# Altium footprint library BQ29200DRBT.PcbLib: 2 footprints
Each footprint in its own frame and in the unit in brackets; x right, y up, seen from the top. Pads: shape width x height; smd on the part's side, far side on the other; paste and mask are expansions set on the pad; w line width, h text height; cw(c..) or ccw(c..) is an arc to the next point about the centre after c.
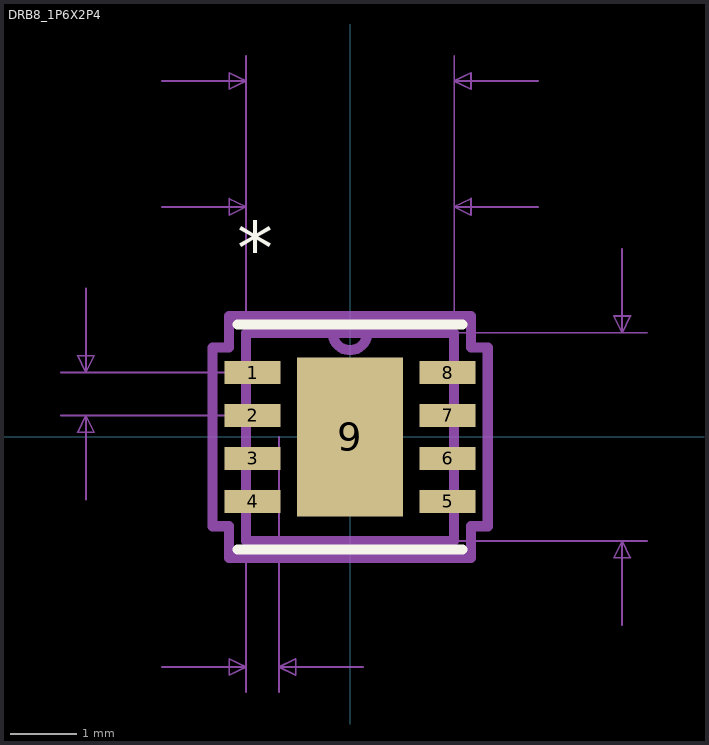
[diagram p0: the footprints below, top view; thin cyan lines are the x and y axes]

## DRB8_1P6X2P4 [mm]
pads (9):
  rect 0.85x0.35 smd: 1(-1.475,0.975) 2(-1.475,0.325) 3(-1.475,-0.325) 4(-1.475,-0.975) 5(1.475,-0.975) 6(1.475,-0.325) 7(1.475,0.325) 8(1.475,0.975)
  rect 1.6x2.4 smd: 9(0,0)
Top Overlay:
  lines w0.152: -1.702,-1.702 1.702,-1.702 ; -1.702,1.702 1.702,1.702
  text "*" at -1.709,2.468 h0.79
Mechanical 1:
  lines w0.025: -0.305,1.575 ccw(c0,1.575) 0.305,1.575 ; -1.575,-1.575 1.575,-1.575 1.575,1.575 -1.575,1.575 -1.575,-1.575 ; -1.575,-1.16 -1.575,-0.79 -1.575,-1.16 ; -1.575,-0.51 -1.575,-0.14 -1.575,-0.51 ; -1.575,0.14 -1.575,0.51 -1.575,0.14 ; -1.575,0.79 -1.575,1.16 -1.575,0.79 ; 1.575,-1.16 1.575,-0.79 1.575,-1.16 ; 1.575,-0.51 1.575,-0.14 1.575,-0.51 ; 1.575,0.14 1.575,0.51 1.575,0.14 ; 1.575,0.79 1.575,1.16 1.575,0.79
  text "*" at -1.321,1.325 h0.79
Mechanical 16:
  lines w0.025: -4.376,0.325 -1.455,0.325 ; -4.376,0.975 -1.455,0.975 ; -3.995,-0.945 -3.995,0.325 ; -3.995,2.245 -3.995,0.975 ; -2.845,-3.48 -1.575,-3.48 ; -2.845,3.48 -1.575,3.48 ; -2.845,5.385 -1.575,5.385 ; -1.575,-3.861 -1.575,0 ; -1.575,3.861 -1.575,0 ; -1.575,5.766 -1.575,0 ; -1.075,-3.861 -1.075,0 ; 0,-1.575 4.496,-1.575 ; 0,1.575 4.496,1.575 ; 0.195,-3.48 -1.075,-3.48 ; 1.575,3.861 1.575,0 1.575,5.766 ; 2.845,3.48 1.575,3.48 ; 2.845,5.385 1.575,5.385 ; 4.115,-2.845 4.115,-1.575 ; 4.115,2.845 4.115,1.575 ; -3.995,0.325 -4.122,0.071 -3.868,0.071 -3.995,0.325 ; -3.995,0.975 -4.122,1.229 -3.868,1.229 -3.995,0.975 ; -1.575,-3.48 -1.829,-3.353 -1.829,-3.607 -1.575,-3.48 ; -1.575,3.48 -1.829,3.607 -1.829,3.353 -1.575,3.48 ; -1.575,5.385 -1.829,5.512 -1.829,5.258 -1.575,5.385 ; -1.075,-3.48 -0.821,-3.353 -0.821,-3.607 -1.075,-3.48 ; 1.575,3.48 1.829,3.607 1.829,3.353 1.575,3.48 ; 1.575,5.385 1.829,5.512 1.829,5.258 1.575,5.385 ; 4.115,-1.575 3.988,-1.829 4.242,-1.829 4.115,-1.575 ; 4.115,1.575 3.988,1.829 4.242,1.829 4.115,1.575
  lines w0.152: -0.262,1.575 ccw(c0,1.575) 0.262,1.575 ; -2.083,-1.351 -2.083,1.351 -1.829,1.351 -1.829,1.829 1.829,1.829 1.829,1.351 2.083,1.351 2.083,-1.351 1.829,-1.351 1.829,-1.829 -1.829,-1.829 -1.829,-1.351 -2.083,-1.351 ; -1.575,-1.575 -1.575,1.575 1.575,1.575 1.575,-1.575 -1.575,-1.575
  text "Default Padstyle: RX33p46Y13p78D0T" at 0,-5.385 h0.79
  text "Pin One Padstyle: EX33p46Y13p78D0T" at 0,-6.909 h0.79
  text "Heat Tab Padstyle: RX62p99Y94p49D0T" at 0,-8.433 h0.79
  text "Via Padstyle: EX20Y20D10P" at 0,-9.957 h0.79
  text "Alt 1 Padstyle: OX60Y90D30P" at 0,-11.481 h0.79
  text "Alt 2 Padstyle: OX90Y60D30P" at 0,-13.005 h0.79
  text "0.124in/3.15mm" at 0,3.988 h0.4
  text "0.124in/3.15mm" at 0,5.893 h0.4
  text "0.124in/3.15mm" at 4.623,0 h0.4
  text "0.026in/0.65mm" at -4.503,0.65 h0.4
  text "0.02in/0.5mm" at -1.325,-3.988 h0.4

## PCBComponent_1 [mm]